# Altium footprint library 7 segment led.PcbLib: 1 footprints
Each footprint in its own frame and in the unit in brackets; x right, y up, seen from the top. Pads: shape width x height; smd on the part's side, far side on the other; paste and mask are expansions set on the pad; w line width, h text height; cw(c..) or ccw(c..) is an arc to the next point about the centre after c.
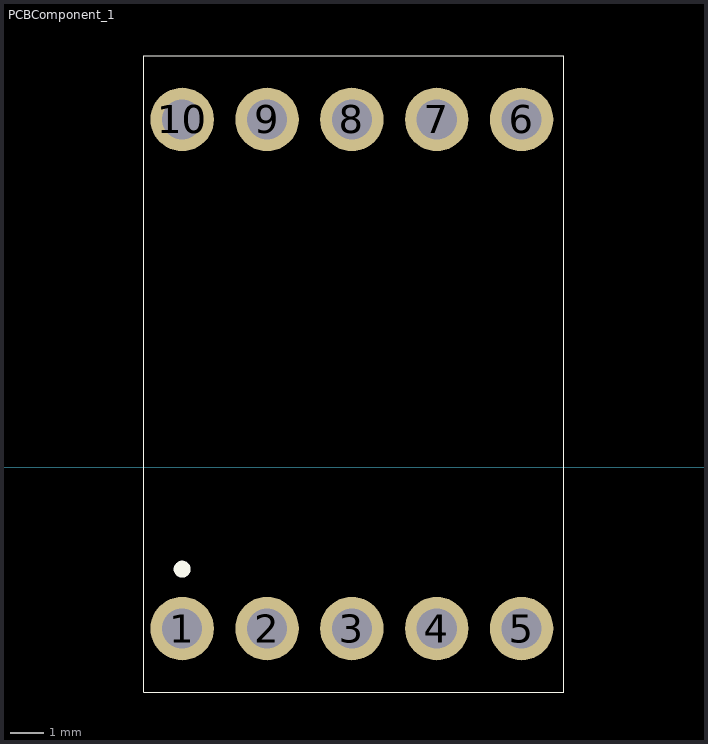
[diagram p0: the footprint, top view; thin cyan lines are the x and y axes]

## PCBComponent_1 [mm]
pads (11):
  round 1.9 hole 1.2 mask+0.076: 1(24.13,-4.826) 2(26.67,-4.826) 3(29.21,-4.826) 4(31.75,-4.826) 5(34.29,-4.826) 6(34.29,10.414) 7(31.75,10.414) 8(29.21,10.414) 9(26.67,10.414) 10(24.13,10.414) 10(24.13,10.414)
Top Overlay:
  circle w0.254: c24.13,-3.048 r0.127
  lines w0.005: 22.987,-6.731 35.56,-6.731 35.56,12.319 22.987,12.319 22.987,-6.731
3D body "Led 7 Segment 5611AS Red CC.STEP": height 8, standoff -2, extent 22.987,-6.681 35.587,12.319